# EAGLE library part MOTION/POSITION-MPU-9250(QFN24) (library Seeed-Sensor-2016)
314990005
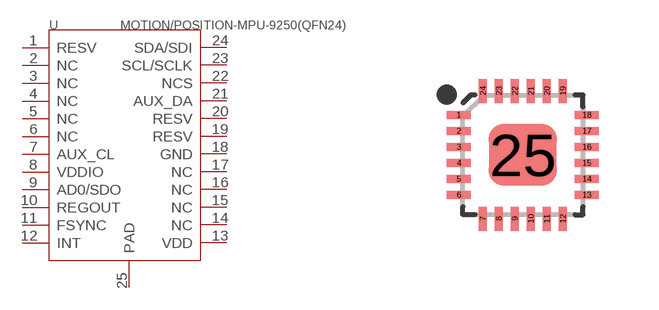
[diagram p4: symbol with the pads of QFN24G-0.4-3X3MM; footprint QFN24G-0.4-3X3MM]

Designator prefix U

## MOTION/POSITION-MPU-9250(QFN24) (MPN: MPU-9250; VALUE: MPU-9250)  [QFN24G-0.4-3X3MM]
1  RESV
2  NC
3  NC
4  NC
5  NC
6  NC
7  AUX_CL
8  VDDIO
9  AD0/SDO
10  REGOUT
11  FSYNC
12  INT
13  VDD
14  NC
15  NC
16  NC
17  NC
18  GND
19  RESV
20  RESV
21  AUX_DA
22  NCS
23  SCL/SCLK
24  SDA/SDI
25  PAD

## Footprint QFN24G-0.4-3X3MM (pad centres in mm)
smd 0.6 x 0.2: 1 -1.6,1; 2 -1.6,0.6; 3 -1.6,0.2; 4 -1.6,-0.2; 5 -1.6,-0.6; 6 -1.6,-1; 13 1.6,-1; 14 1.6,-0.6; 15 1.6,-0.2; 16 1.6,0.2; 17 1.6,0.6; 18 1.6,1
smd 0.2 x 0.6: 7 -1,-1.6; 8 -0.6,-1.6; 9 -0.2,-1.6; 10 0.2,-1.6; 11 0.6,-1.6; 12 1,-1.6; 19 1,1.6; 20 0.6,1.6; 21 0.2,1.6; 22 -0.2,1.6; 23 -0.6,1.6; 24 -1,1.6
smd 1.7 x 1.54: 25 0,0